# Altium footprint library All.PcbLib: 121 footprints (part 8 of 8)
Each footprint in its own frame and in the unit in brackets; x right, y up, seen from the top. Pads: shape width x height; smd on the part's side, far side on the other; paste and mask are expansions set on the pad; w line width, h text height; cw(c..) or ccw(c..) is an arc to the next point about the centre after c.
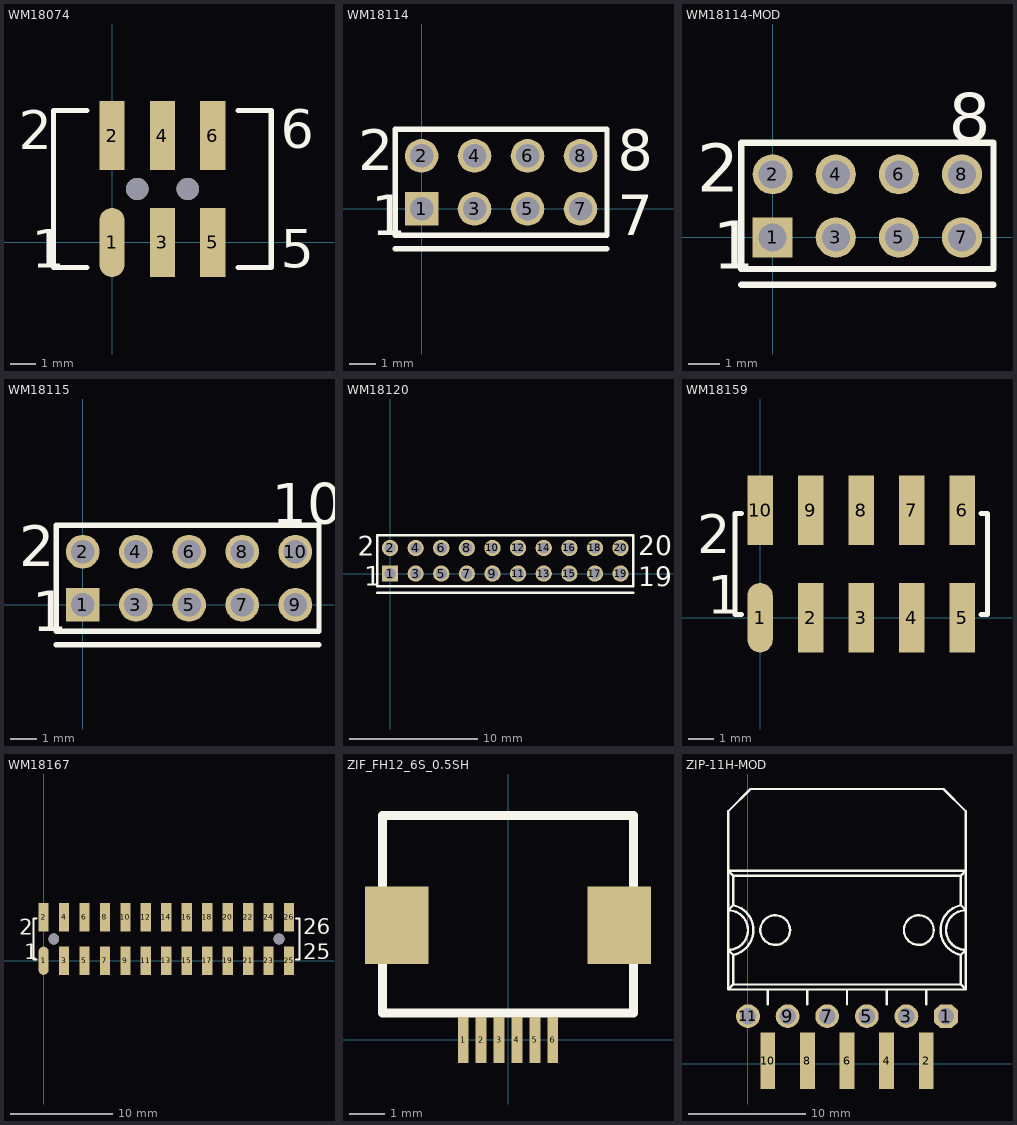
[diagram p7: the footprints below, top view; thin cyan lines are the x and y axes]

## WM18074 [mm]
pads (6):
  oval 1x2.75 smd: 1(0,0)
  rect 1x2.75 smd: 2(0,4.25) 3(2,0) 4(2,4.25) 5(4,0) 6(4,4.25)
via 3,2.125 diameter 0.889 hole 0.889
via 1,2.125 diameter 0.889 hole 0.889
Top Overlay:
  lines w0.203: -1,-1 -2.325,-1 -2.325,5.25 -1,5.25 ; 5,-1 6.325,-1 6.325,5.25 5,5.25
  text "5" at 6.7,-1 h1.52
  text "2" at -3.7,3.7 h1.52
  text "6" at 6.7,3.75 h1.52
  text "1" at -3.2,-1 h1.52

## WM18114 [mm]
pads (8):
  rect 1.27x1.27 hole 0.889: 1(0,0)
  round 1.27 hole 0.889: 2(0,2) 3(2,0) 4(2,2) 5(4,0) 6(4,2) 7(6,0) 8(6,2)
Top Overlay:
  lines w0.203: -1,-1.5 7,-1.5 ; -1,-1 -1,3 7,3 7,-1 -1,-1
  text "7" at 7.4,-1 h1.52
  text "8" at 7.4,1.45 h1.52
  text "2" at -2.4,1.45 h1.52
  text "1" at -1.9,-1 h1.52

## WM18114-MOD [mm]
pads (8):
  rect 1.27x1.27 hole 0.889: 1(0,0)
  round 1.27 hole 0.889: 2(0,2) 3(2,0) 4(2,2) 5(4,0) 6(4,2) 7(6,0) 8(6,2)
Top Overlay:
  lines w0.203: -1,-1.5 7,-1.5 ; -1,-1 -1,3 7,3 7,-1 -1,-1
  text "8" at 5.588,3.048 h1.52
  text "2" at -2.4,1.45 h1.52
  text "1" at -1.9,-1 h1.52

## WM18115 [mm]
pads (10):
  rect 1.27x1.27 hole 0.889: 1(0,0)
  round 1.27 hole 0.889: 2(0,2) 3(2,0) 4(2,2) 5(4,0) 6(4,2) 7(6,0) 8(6,2) 9(8,0) 10(8,2)
Top Overlay:
  lines w0.203: -1,-1.5 8.89,-1.5 ; -1,-1 -1,3 8.89,3 8.89,-1 -1,-1
  text "10" at 7.112,3.048 h1.52
  text "2" at -2.4,1.45 h1.52
  text "1" at -1.9,-1 h1.52

## WM18120 [mm]
pads (20):
  rect 1.27x1.27 hole 0.889: 1(0,0)
  round 1.27 hole 0.889: 2(0,2) 3(2,0) 4(2,2) 5(4,0) 6(4,2) 7(6,0) 8(6,2) 9(8,0) 10(8,2) 11(10,0) 12(10,2) 13(12,0) 14(12,2) 15(14,0) 16(14,2) 17(16,0) 18(16,2) 19(18,0) 20(18,2)
Top Overlay:
  lines w0.203: -1,-1.5 19,-1.5 ; -1,-1 19,-1 19,3 -1,3 -1,-1
  text "19" at 19.4,-1 h1.52
  text "1" at -2,-0.95 h1.52
  text "2" at -2.5,1.4 h1.52
  text "20" at 19.4,1.45 h1.52

## WM18159 [mm]
pads (10):
  oval 1x2.75 smd: 1(0,0)
  rect 1x2.75 smd: 2(2,0) 3(4,0) 4(6,0) 5(8,0) 6(8,4.25) 7(6,4.25) 8(4,4.25) 9(2,4.25) 10(0,4.25)
Top Overlay:
  lines w0.203: -0.75,0.125 -1,0.125 -1,4.125 -0.75,4.125 ; 8.75,0.125 9,0.125 9,4.125 8.75,4.125
  text "2" at -2.5,2.55 h1.52
  text "1" at -2.1,0.15 h1.52

## WM18167 [mm]
pads (26):
  oval 1x2.75 smd: 1(0,0)
  rect 1x2.75 smd: 2(0,4.25) 3(2,0) 4(2,4.25) 5(4,0) 6(4,4.25) 7(6,0) 8(6,4.25) 9(8,0) 10(8,4.25) 11(10,0) 12(10,4.25) 13(12,0) 14(12,4.25) 15(14,0) 16(14,4.25) 17(16,0) 18(16,4.25) 19(18,0) 20(18,4.25) 21(20,0) 22(20,4.25) 23(22,0) 24(22,4.25) 25(24,0) 26(24,4.25)
via 23,2.125 diameter 1.067 hole 1.067
via 1,2.125 diameter 1.067 hole 1.067
Top Overlay:
  lines w0.203: -0.7,0.125 -1,0.125 -1,4.125 -0.7,4.125 ; 24.7,0.125 25,0.125 25,4.125 24.7,4.125
  text "2" at -2.4,2.55 h1.52
  text "25" at 25.4,0.15 h1.52
  text "26" at 25.4,2.6 h1.52
  text "1" at -1.9,0.15 h1.52

## ZIF_FH12_6S_0.5SH [mil] "ZIF connector FH12 6 way 0.5 mm pitch"
pads (8):
  rect 12x51.2 smd: 1(-50,0) 2(-30,0) 3(-10,0) 4(10,0) 5(30,0) 6(50,0)
  rect 70.87x86.6 smd: ""(-124.02,127.94) ""(124.02,127.94)
Top Overlay:
  lines w10: -140,250 140,250 ; -140,250.5 -140,30 140,30 140,250.5

## ZIP-11H-MOD [mil]
pads (11):
  oct 80x80 hole 55: 1(666.67,160)
  rect 50x190 smd: 2(600,10) 4(466.67,10) 6(333.33,10) 8(200,10) 10(66.67,10)
  round 80 hole 55: 3(533.33,160) 5(400,160) 7(266.67,160) 9(133.33,160) 11(0,160)
Top Overlay:
  circle w8: c91.67,450 r50
  circle w8: c575,450 r50
  lines w7.87: -66.67,383.33 -50,366.67 -50,266.67 ; -66.67,516.67 -50,533.33 -50,633.33 ; 66.67,200 66.67,250 ; 200,200 200,250 ; 333.33,200 333.33,250 ; 466.67,200 466.67,250 ; 600,200 600,250 ; 733.33,383.33 716.67,366.67 716.67,266.67 ; 733.33,516.67 716.67,533.33 716.67,633.33 ; -66.67,250 -66.67,650 ; -66.67,250 733.33,250 ; -66.67,250 -50,266.67 ; -66.67,650 -66.67,850 8.33,925 658.33,925 733.33,850 733.33,650 ; -66.67,650 733.33,650 ; -66.67,650 -50,633.33 ; -50,266.67 716.67,266.67 ; -50,633.33 716.67,633.33 ; 716.67,266.67 733.33,250 ; 716.67,633.33 733.33,650 ; 733.33,250 733.33,650
  lines w8: -66.67,383.33 ccw(c-66.67,450) -66.67,516.67 ; -50.45,366.56 ccw(c-66.67,450) -50.45,533.44 ; 717.11,366.56 cw(c733.33,450) 717.11,533.44 ; 733.33,383.33 cw(c733.33,450) 733.33,516.67